# Altium footprint library AdamsParts.PcbLib: 238 footprints (part 8 of 15)
Each footprint in its own frame and in the unit in brackets; x right, y up, seen from the top. Pads: shape width x height; smd on the part's side, far side on the other; paste and mask are expansions set on the pad; w line width, h text height; cw(c..) or ccw(c..) is an arc to the next point about the centre after c.
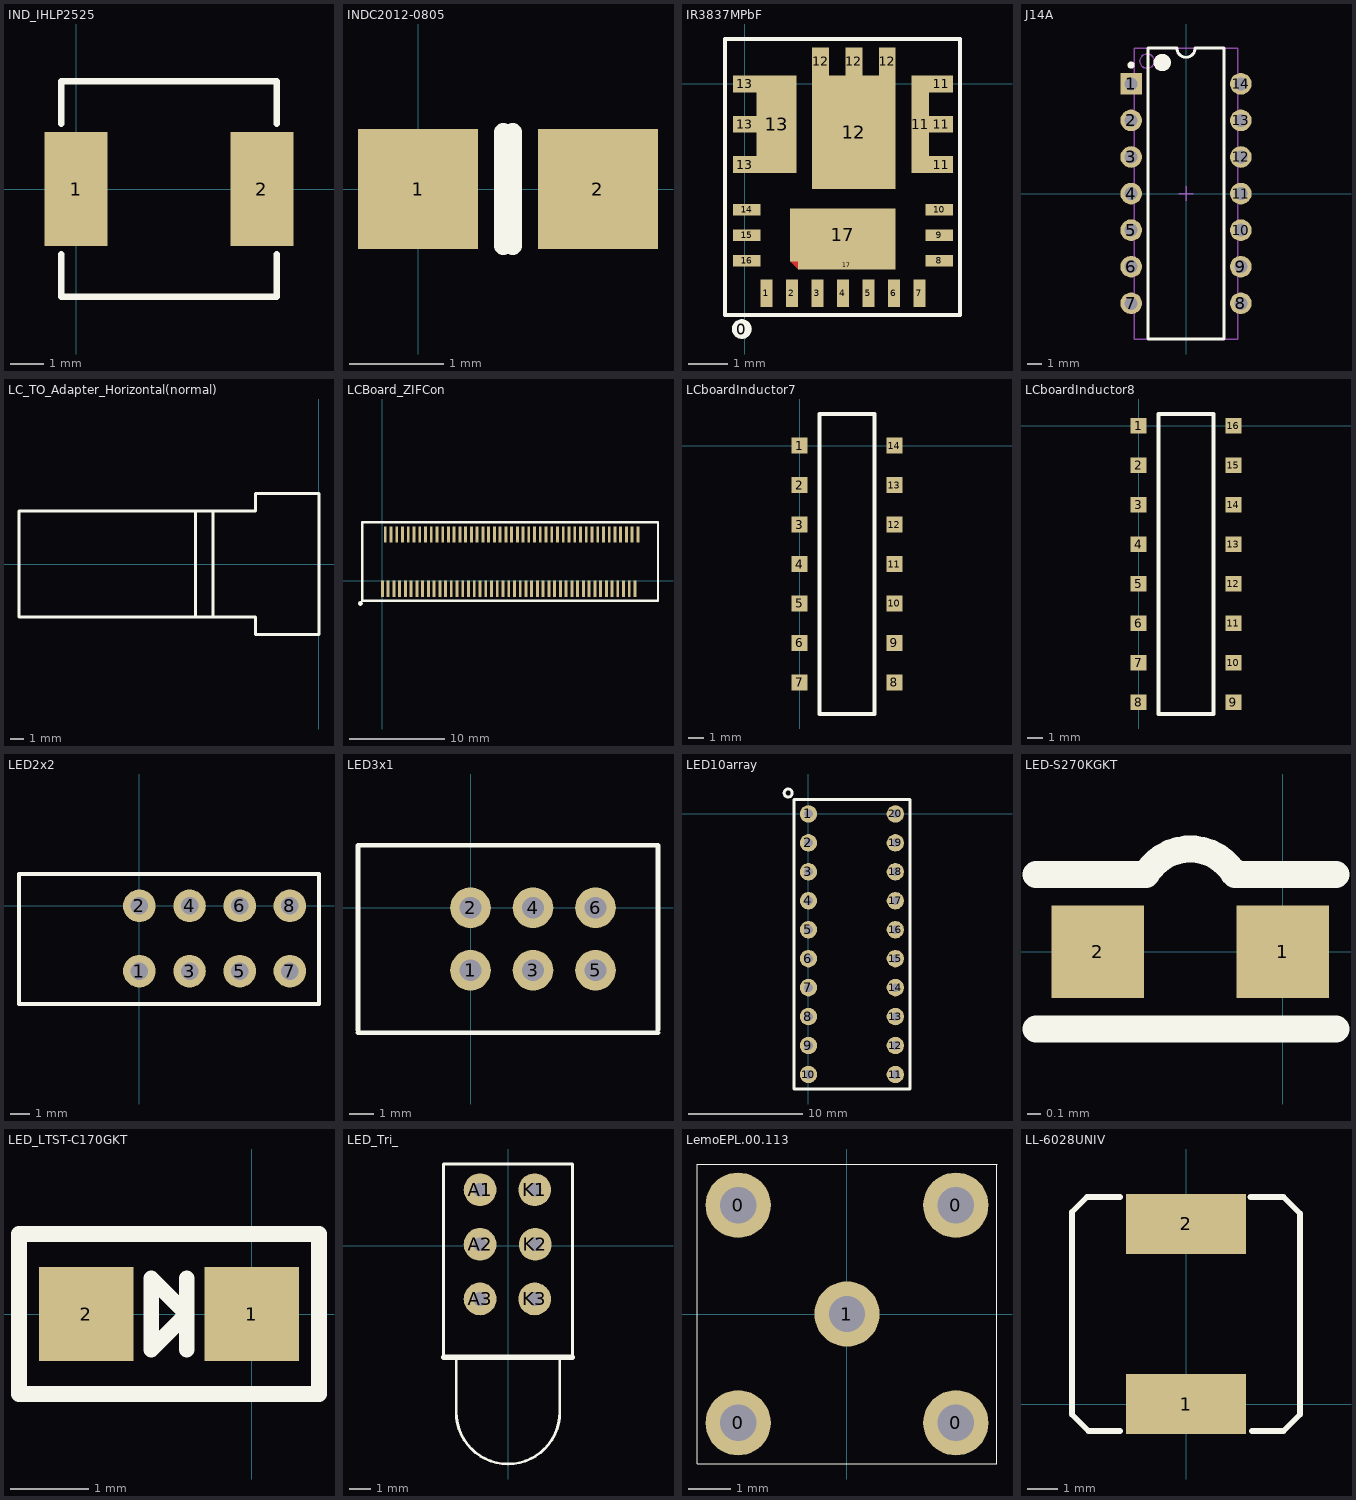
[diagram p7: the footprints below, top view; thin cyan lines are the x and y axes]

## IND_IHLP2525 [mil]
pads (2):
  rect 75x135 smd: 1(0,0) 2(220,0)
Top Overlay:
  lines w7.87: -17.5,-77.5 -17.5,-127.5 237.5,-127.5 237.5,-77.5 ; -17.5,77.5 -17.5,127.5 237.5,127.5 237.5,77.5

## INDC2012-0805 [mm]
pads (2):
  rect 1.27x1.27 smd: 1(0,0) 2(1.9,0)
Top Overlay:
  lines w0.2: 0.9,-0.6 0.9,0.6 ; 1,-0.6 1,0.6

## IR3837MPbF [mm] "International Rectifier 14A buck regulator"
height 1
pads (28):
  round 0.508 on Top Overlay: 0(-0.076,-6.248)
  rect 0.3x0.7 smd: 1(0.55,-5.34) 2(1.2,-5.34) 3(1.85,-5.34) 4(2.5,-5.34) 5(3.15,-5.34) 6(3.8,-5.34) 7(4.45,-5.34)
  rect 0.7x0.3 smd: 8(4.95,-4.51) 9(4.95,-3.86) 10(4.95,-3.21) 14(0.05,-3.21) 15(0.05,-3.86) 16(0.05,-4.51)
  rect 0.45x2.49 smd paste-0.051 mask-0.051: 11(4.47,-1.03)
  rect 0.61x0.43 smd: 11(5,-2.06) 11(5,-1.03) 11(5,0)
  rect 0.43x0.71 smd: 12(1.93,0.57) 12(2.78,0.57) 12(3.63,0.57)
  rect 2.13x2.89 smd paste-0.051 mask-0.051: 12(2.78,-1.23)
  rect 0.6x0.43 smd: 13(0,-2.06) 13(0,-1.03) 13(0,0)
  rect 1.02x2.49 smd paste-0.051 mask-0.051: 13(0.81,-1.03)
  rect 2.69x1.35 smd paste-0.051 mask-0.051: 17(2.5,-3.85)
  rect 2.49x0.2 smd paste-0.051 mask-0.051: 17(2.6,-4.625)
Top Layer:
  region: 1.156,-4.523 1.356,-4.724 1.356,-4.526 1.354,-4.523
Top Overlay:
  lines w0.102: -0.508,-5.893 5.486,-5.893 5.486,1.143 3.937,1.143 -0.508,1.143 -0.508,-0.838 -0.508,-5.893
Top Paste:
  region: 3.794,-4.674 3.793,-4.674 1.38,-4.674 1.206,-4.501 1.206,-4.474 3.794,-4.474
Top Solder:
  rectangle: 1.397,-4.623 3.794,-4.47
  region: 1.304,-4.599 1.276,-4.571 1.206,-4.498 1.206,-4.473 1.422,-4.473 1.422,-4.489 1.421,-4.502 1.421,-4.535 1.421,-4.567 1.421,-4.674 1.39,-4.674 1.384,-4.674 1.379,-4.674 1.375,-4.67
3D body: height 1, standoff 0, extent -0.508,-5.893 5.461,1.143

## J14A [mm] "DIP, 14-Leads, Row Spacing 7.62mm, Pitch 2.54mm, Body 19.56x6.73mm"
height 5.08
pads (14):
  rect 1.5x1.5 hole 0.9: 1(-3.81,7.62)
  round 1.5 hole 0.9: 2(-3.81,5.08) 3(-3.81,2.54) 4(-3.81,0) 5(-3.81,-2.54) 6(-3.81,-5.08) 7(-3.81,-7.62) 8(3.81,-7.62) 9(3.81,-5.08) 10(3.81,-2.54) 11(3.81,0) 12(3.81,2.54) 13(3.81,5.08) 14(3.81,7.62)
Top Overlay:
  circle w0.6: c-1.65,9.1 r0.3
  circle w0.25: c-3.81,8.92 r0.125
  lines w0.2: -2.65,-10.1 2.65,-10.1 2.65,10.1 0.635,10.1 cw(c0,10.1) -0.635,10.1 -2.65,10.1 -2.65,-10.1
Mechanical 13:
  circle w0.1: c-2.7,9.2 r0.5
  lines w0.1: -3.6,-10.1 3.6,-10.1 3.6,10.1 -3.6,10.1 -3.6,-10.1
Mechanical 15:
  lines w0.1: -0.5,0 0.5,0 ; 0,-0.5 0,0.5
3D body: height 5.08, standoff 0, extent -3.6,-10.1 3.6,10.1

## LC_TO_Adapter_Horizontal(normal) [mm]
height 13.5
Top Overlay:
  lines w0.2: -8.89,-3.81 -21.59,-3.81 -21.59,3.81 -8.89,3.81 ; -8.89,-3.81 -8.89,3.81 ; -8.89,-3.81 -7.62,-3.81 ; -8.89,3.81 -7.62,3.81 ; -7.62,-3.81 -7.62,3.81 ; -7.62,-3.81 -4.572,-3.81 -4.572,-5.08 0,-5.08 0,5.08 -4.572,5.08 -4.572,3.81 -7.62,3.81

## LCBoard_ZIFCon [mm] "HFP190CT-ND"
pads (91):
  rect 0.3x1.7 smd: 1(0,-0.85) 2(0.3,4.8) 3(0.6,-0.85) 4(0.9,4.8) 5(1.2,-0.85) 6(1.5,4.8) 7(1.8,-0.85) 8(2.1,4.8) 9(2.4,-0.85) 10(2.7,4.8) 11(3,-0.85) 12(3.3,4.8) 13(3.6,-0.85) 14(3.9,4.8) 15(4.2,-0.85) 16(4.5,4.8) 17(4.8,-0.85) 18(5.1,4.8) 19(5.4,-0.85) 20(5.7,4.8) 21(6,-0.85) 22(6.3,4.8) 23(6.6,-0.85) 24(6.9,4.8) 25(7.2,-0.85) 26(7.5,4.8) 27(7.8,-0.85) 28(8.1,4.8) 29(8.4,-0.85) 30(8.7,4.8) 31(9,-0.85) 32(9.3,4.8) 33(9.6,-0.85) 34(9.9,4.8) 35(10.2,-0.85) 36(10.5,4.8) 37(10.8,-0.85) 38(11.1,4.8) 39(11.4,-0.85) 40(11.7,4.8) 41(12,-0.85) 42(12.3,4.8) 43(12.6,-0.85) 44(12.9,4.8) 45(13.2,-0.85) 46(13.5,4.8) 47(13.8,-0.85) 48(14.1,4.8) 49(14.4,-0.85) 50(14.7,4.8) 51(15,-0.85) 52(15.3,4.8) 53(15.6,-0.85) 54(15.9,4.8) 55(16.2,-0.85) 56(16.5,4.8) 57(16.8,-0.85) 58(17.1,4.8) 59(17.4,-0.85) 60(17.7,4.8) 61(18,-0.85) 62(18.3,4.8) 63(18.6,-0.85) 64(18.9,4.8) 65(19.2,-0.85) 66(19.5,4.8) 67(19.8,-0.85) 68(20.1,4.8) 69(20.4,-0.85) 70(20.7,4.8) 71(21,-0.85) 72(21.3,4.8) 73(21.6,-0.85) 74(21.9,4.8) 75(22.2,-0.85) 76(22.5,4.8) 77(22.8,-0.85) 78(23.1,4.8) 79(23.4,-0.85) 80(23.7,4.8) 81(24,-0.85) 82(24.3,4.8) 83(24.6,-0.85) 84(24.9,4.8) 85(25.2,-0.85) 86(25.5,4.8) 87(25.8,-0.85) 88(26.1,4.8) 89(26.4,-0.85) 90(26.7,4.8)
  round 0.5 on Top Overlay: 2(-2.3,-2.4)
Top Overlay:
  lines w0.254: -2.1,-2.1 28.8,-2.1 28.8,6.1 -2.1,6.1 -2.1,-2.1

## LCboardInductor7 [mil]
pads (14):
  rect 40x40 smd: 1(0,0) 2(0,-100) 3(0,-200) 4(0,-300) 5(0,-400) 6(0,-500) 7(0,-600) 8(240,-600) 9(240,-500) 10(240,-400) 11(240,-300) 12(240,-200) 13(240,-100) 14(240,0)
Top Overlay:
  lines w10: 50,-680 50,80 190,80 190,-680 50,-680

## LCboardInductor8 [mil]
pads (16):
  rect 40x40 smd: 1(0,0) 2(0,-100) 3(0,-200) 4(0,-300) 5(0,-400) 6(0,-500) 7(0,-600) 8(0,-700) 9(240,-700) 10(240,-600) 11(240,-500) 12(240,-400) 13(240,-300) 14(240,-200) 15(240,-100) 16(240,0)
Top Overlay:
  lines w10: 50,-730 50,30 190,30 190,-730 50,-730

## LED2x2 [mil]
pads (8):
  round 65 hole 35: 1(0,-130) 2(0,0) 3(100,-130) 4(100,0) 5(200,-130) 6(200,0) 7(300,-130) 8(300,0)
Top Overlay:
  lines w7.87: -240,-196 -240,64 358,64 358,-196 -240,-196

## LED3x1 [mil]
pads (6):
  round 65 hole 35: 1(0,-100) 2(0,0) 3(100,-100) 4(100,0) 5(200,-100) 6(200,0)
Top Overlay:
  lines w7.87: -180,-200 300,-200 ; -180,-196 -180,100 300,100 300,-195

## LED10array [mil]
pads (20):
  round 60 hole 30: 1(0,0) 2(0,-100) 3(0,-200) 4(0,-300) 5(0,-400) 6(0,-500) 7(0,-600) 8(0,-700) 9(0,-800) 10(0,-900) 11(300,-900) 12(300,-800) 13(300,-700) 14(300,-600) 15(300,-500) 16(300,-400) 17(300,-300) 18(300,-200) 19(300,-100) 20(300,0)
Top Overlay:
  circle w10: c-69.93,72 r13.93
  lines w10: -50,-950 -50,50 350,50 350,-950 -50,-950

## LED-S270KGKT [mil]
pads (2):
  rect 27x27 smd: 1(0,0) 2(-54,0)
Top Overlay:
  lines w7.87: -72,-22.5 15.5,-22.5 ; -72,22.5 -39.98,22.5 cw(c-26.99,15) -14,22.5 15.5,22.5

## LED_LTST-C170GKT [mm]
pads (2):
  rect 1.2x1.2 smd: 1(0,0) 2(-2.1,0)
Top Overlay:
  lines w0.2: -0.825,-0.45 -0.825,0.45 ; -2.955,-1.016 -2.955,1.016 0.855,1.016 0.855,-1.016 -2.955,-1.016 ; -1.275,-0.45 -0.825,0 -1.275,0.45 -1.275,-0.45

## LED_Tri_ [mil]
pads (6):
  round 60 hole 25: A1(-51.18,102.36) A2(-51.18,2.36) A3(-51.18,-97.64) K1(48.82,102.36) K2(50,2.36) K3(48.82,-97.64)
Top Overlay:
  lines w5: -118.11,-204.72 -118.11,149.61 118.11,149.61 118.11,-204.72 ; -95,-205 -95,-305 ccw(c0,-305) 95,-305 95,-205
  lines w10: -118.11,-204.72 118.11,-204.72

## LemoEPL.00.113 [mil] "Lemo Connector"
pads (5):
  round 60 hole 33.46: 0(-100,-100) 0(-100,100) 0(100,-100) 0(100,100) 1(0,0)
Top Overlay:
  lines w1: -137.8,-137.8 -137.8,137.8 137.8,137.8 137.8,-137.8 -137.8,-137.8

## LL-6028UNIV [mm]
pads (2):
  rect 4x2 smd: 1(0,0) 2(0,6)
Top Overlay:
  lines w0.2: -2.2,-0.9 -3.25,-0.9 -3.8,-0.35 -3.8,6.4 -3.3,6.9 -2.2,6.9 ; 2.15,6.9 3.25,6.9 3.8,6.35 3.8,-0.35 3.25,-0.9 2.2,-0.9